# Altium footprint library T38_H.PcbLib: 2 footprints
Each footprint in its own frame and in the unit in brackets; x right, y up, seen from the top. Pads: shape width x height; smd on the part's side, far side on the other; paste and mask are expansions set on the pad; w line width, h text height; cw(c..) or ccw(c..) is an arc to the next point about the centre after c.
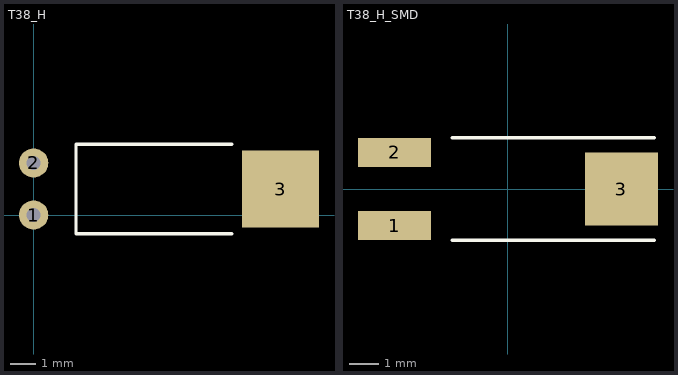
[diagram p0: the footprints below, top view; thin cyan lines are the x and y axes]

## T38_H [mil]
pads (3):
  round 45 hole 21.65: 1(0,0) 2(0,80)
  rect 118.11x118.11 smd: 3(379.96,40)
Top Overlay:
  lines w5: 305,-28.9 65,-28.9 65,108.9 305,108.9
3D body: height 79.92, standoff 1.18, extent 8.23,-5 335,85.55

## T38_H_SMD [mm]
pads (3):
  rect 2.5x1 smd: 1(-3.875,-1.25) 2(-3.875,1.25)
  rect 2.5x2.5 smd: 3(3.875,0)
Top Overlay:
  lines w0.127: -1.9,-1.75 5,-1.75 ; -1.9,1.75 5,1.75
3D body: height 2, standoff 0, extent -4.5,-1.397 4.5,1.403